# Altium footprint library SnapEDApcb.PcbLib: 1 footprints
Each footprint in its own frame and in the unit in brackets; x right, y up, seen from the top. Pads: shape width x height; smd on the part's side, far side on the other; paste and mask are expansions set on the pad; w line width, h text height; cw(c..) or ccw(c..) is an arc to the next point about the centre after c.
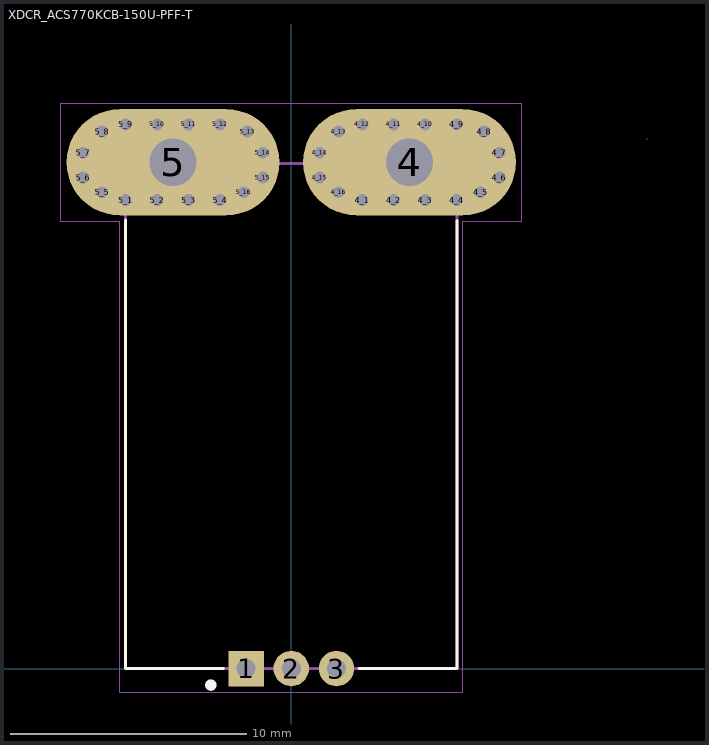
[diagram p0: the footprint, top view; thin cyan lines are the x and y axes]

## XDCR_ACS770KCB-150U-PFF-T [mm]
pads (37):
  rect 1.5x1.5 hole 0.8: 1(-1.91,0)
  round 1.5 hole 0.8: 2(0,0) 3(1.91,0)
  oval 9x4.5 hole 2: 4(5,21.4) 5(-5,21.4)
  round 0.8 hole 0.5: 4_1(3,19.8) 4_2(4.33,19.8) 4_3(5.66,19.8) 4_4(6.99,19.8) 4_5(8,20.13) 4_6(8.8,20.75) 4_7(8.8,21.8) 4_8(8.15,22.7) 4_9(6.99,23) 4_10(5.66,23) 4_11(4.33,23) 4_12(3,23) 4_13(2,22.7) 4_14(1.2,21.8) 4_15(1.2,20.75) 4_16(2,20.13) 5_1(-7,19.8) 5_2(-5.67,19.8) 5_3(-4.34,19.8) 5_4(-3.01,19.8) 5_5(-8,20.13) 5_6(-8.8,20.75) 5_7(-8.8,21.8) 5_8(-8,22.7) 5_9(-7,23) 5_10(-5.67,23) 5_11(-4.34,23) 5_12(-3.01,23) 5_13(-1.85,22.7) 5_14(-1.2,21.8) 5_15(-1.2,20.75) 5_16(-2,20.13)
Top Overlay:
  circle w0.24: c-3.4,-0.7 r0.12
  lines w0.127: -7,18.96 -7,0 -2.86,0 ; 2.86,0 7,0 7,18.94
Mechanical 1:
  lines w0: -5,22.4 -4.95,22.4 ; 5,22.4 5.05,22.4 ; 15,22.4 15.05,22.4 ; -7,20.4 cw(c-7,21.4) -7,22.4 -3,22.4 cw(c-3,21.4) -3,20.4 -7,20.4 ; 3,20.4 cw(c3,21.4) 3,22.4 7,22.4 cw(c7,21.4) 7,20.4 3,20.4
Mechanical 13:
  lines w0.127: -7,0 -7,21.341 7,21.341 7,0 -7,0
Mechanical 15:
  lines w0.05: -9.75,18.9 -7.25,18.9 -7.25,-1 7.25,-1 7.25,18.9 9.75,18.9 9.75,23.9 -9.75,23.9 -9.75,18.9